# EAGLE library part NRF24L01_MINI (library GRITSBot)
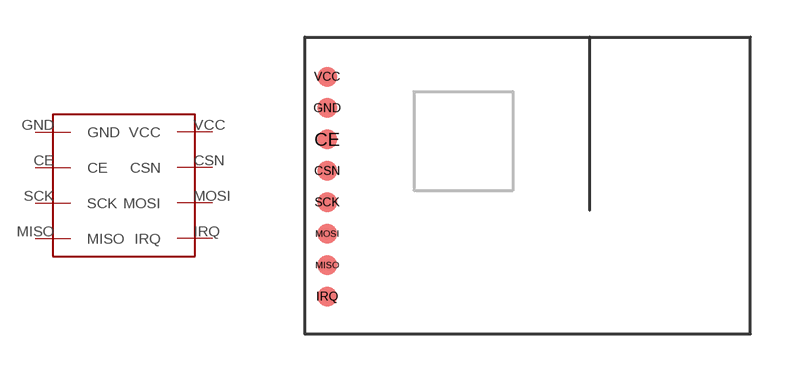
[diagram p15: symbol with the pads of NRF24L01_MINI; footprint NRF24L01_MINI]

Designator prefix -

## NRF24L01_MINI  [NRF24L01_MINI]
CE  CE
CSN  CSN
GND  GND
IRQ  IRQ
MISO  MISO
MOSI  MOSI
SCK  SCK
VCC  VCC

## Footprint NRF24L01_MINI (pad centres in mm)
smd 0.8 x 0.8: CE -8.1,1.86; CSN -8.1,0.59; GND -8.1,3.13; IRQ -8.1,-4.49; MISO -8.1,-3.22; MOSI -8.1,-1.95; SCK -8.1,-0.68; VCC -8.1,4.4